# Altium footprint library Mylibr.PcbLib: 102 footprints (part 5 of 7)
Each footprint in its own frame and in the unit in brackets; x right, y up, seen from the top. Pads: shape width x height; smd on the part's side, far side on the other; paste and mask are expansions set on the pad; w line width, h text height; cw(c..) or ccw(c..) is an arc to the next point about the centre after c.
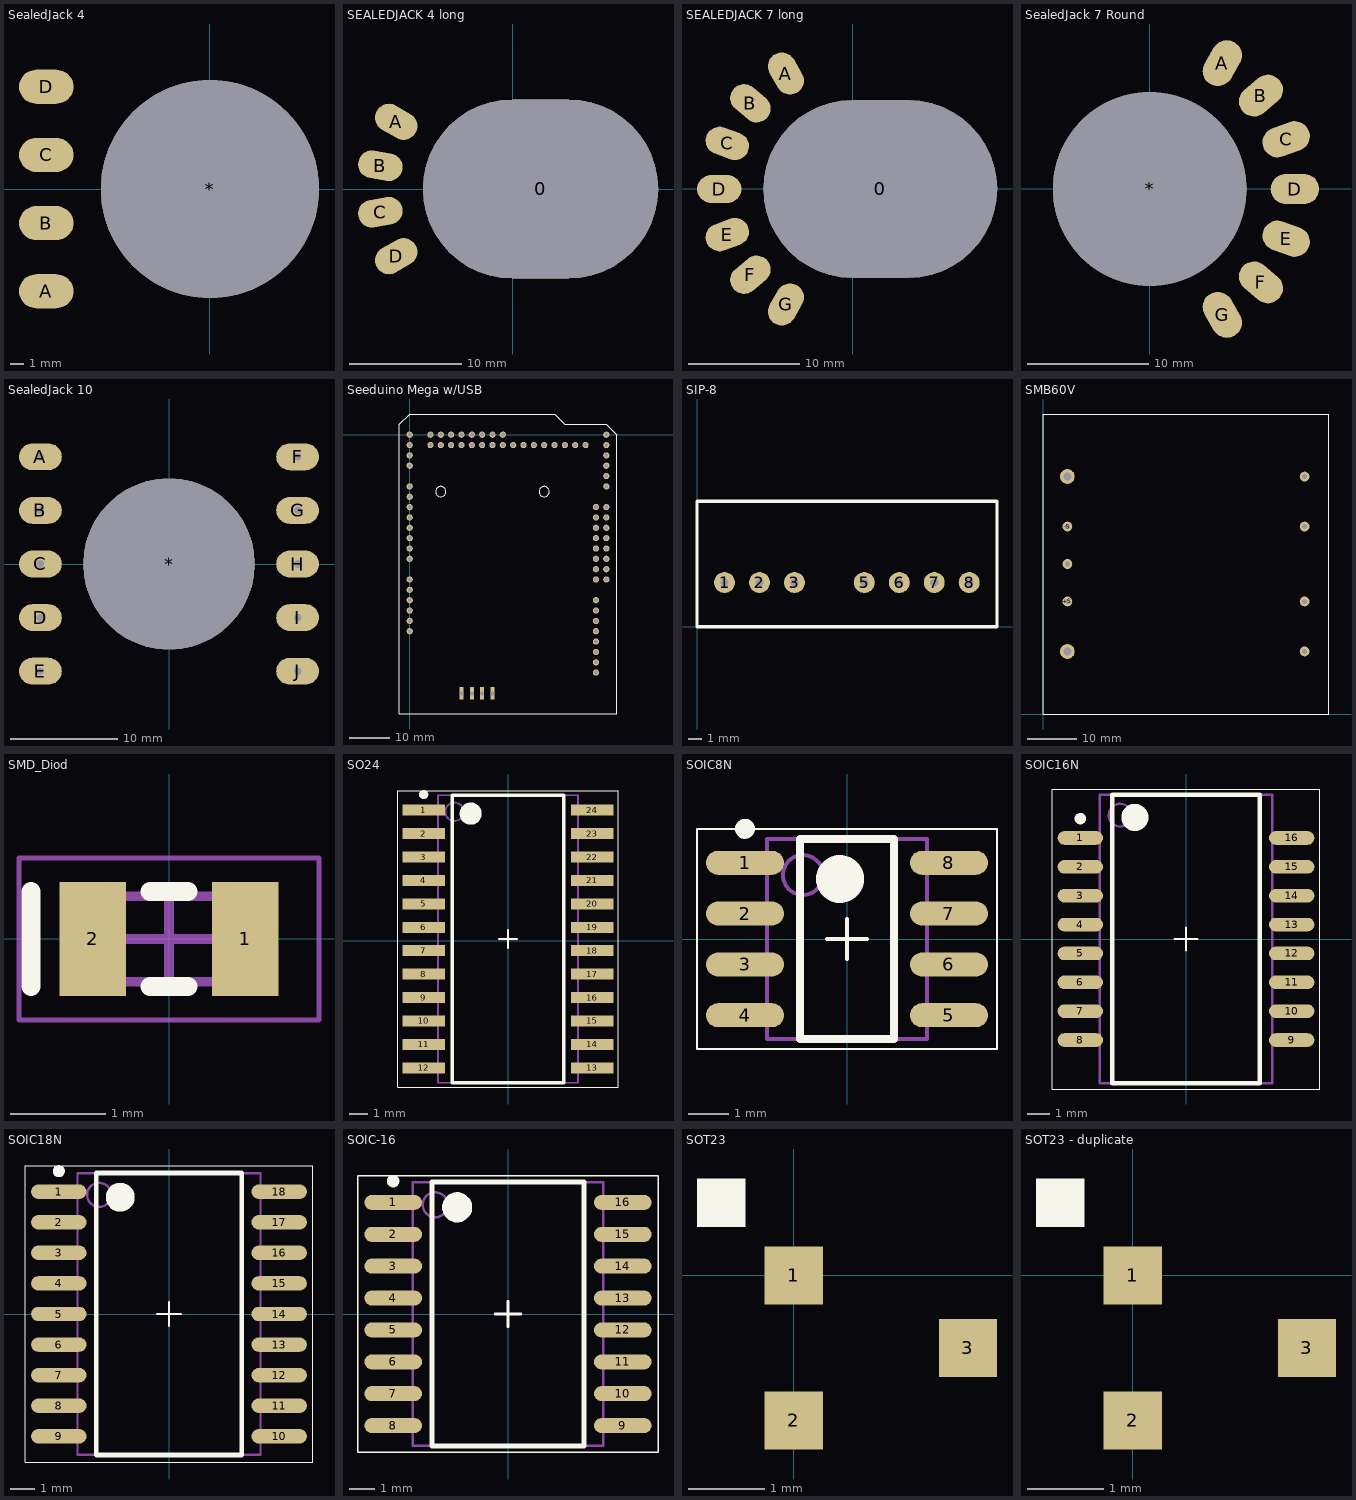
[diagram p4: the footprints below, top view; thin cyan lines are the x and y axes]

## SealedJack 4 [mm] "Гермоввод 4 пина"
pads (5):
  round 16 hole 16 unplated: *(0,0)
  oval 4x2.5 smd: A(-12,-7.5) B(-12,-2.5) C(-12,2.5) D(-12,7.5)

## SEALEDJACK 4 long [mm] "Гермоввод 4 пинов, вытянутое гнездо"
pads (5):
  oval 21x16 hole 16 slot 21 at 0 deg unplated: 0(2.5,0)
  oval 4x2.5 smd rot 150: A(-10.392,6)
  oval 4x2.5 smd rot 170: B(-11.818,2.084)
  oval 4x2.5 smd rot 10: C(-11.818,-2.084)
  oval 4x2.5 smd rot 30: D(-10.392,-6)

## SEALEDJACK 7 long [mm] "Гермоввод 7 пинов, вытянутой гнездо"
pads (8):
  oval 21x16 hole 16 slot 21 at 0 deg unplated: 0(2.5,0)
  oval 4x2.5 smd rot 120: A(-6,10.392)
  oval 4x2.5 smd rot 140: B(-9.193,7.713)
  oval 4x2.5 smd rot 160: C(-11.276,4.104)
  oval 4x2.5 smd: D(-12,0)
  oval 4x2.5 smd rot 20: E(-11.276,-4.104)
  oval 4x2.5 smd rot 40: F(-9.193,-7.713)
  oval 4x2.5 smd rot 60: G(-6,-10.392)

## SealedJack 7 Round [mm] "Гермоввод 7 пинов"
pads (8):
  round 16 hole 16 unplated: *(0,0)
  oval 4x2.5 smd rot 60: A(6,10.392)
  oval 4x2.5 smd rot 40: B(9.193,7.713)
  oval 4x2.5 smd rot 20: C(11.276,4.104)
  oval 4x2.5 smd: D(12,0)
  oval 4x2.5 smd rot 160: E(11.276,-4.104)
  oval 4x2.5 smd rot 140: F(9.193,-7.713)
  oval 4x2.5 smd rot 120: G(6,-10.392)

## SealedJack 10 [mm] "Гермоввод 10 пинов"
pads (11):
  round 16 hole 16 unplated: *(0,0)
  oval 4x2.5 smd: A(-12,10) B(-12,5) C(-12,0) D(-12,-5) E(-12,-10) F(12,10) G(12,5) H(12,0) I(12,-5) J(12,-10)
via 12,10 diameter 1.27 hole 0.711
via 12,5 diameter 1.27 hole 0.711
via 12,0 diameter 1.27 hole 0.711
via 12,-5 diameter 1.27 hole 0.711
via 12,-10 diameter 1.27 hole 0.711
via -12,-10 diameter 1.27 hole 0.711
via -12,-5 diameter 1.27 hole 0.711
via -12,0 diameter 1.27 hole 0.711
via -12,5 diameter 1.27 hole 0.711
via -12,10 diameter 1.27 hole 0.711

## Seeduino Mega w/USB [mil]
pads (76):
  round 60 hole 38: 0(200,-100) 0(200,0) 0(300,-100) 0(300,0) 0(400,-100) 0(400,0) 0(500,-100) 0(500,0) 0(600,-100) 0(600,0) 0(700,-100) 0(700,0) 0(800,-100) 0(800,0) 0(900,-100) 0(900,0) 0(1000,-100) 0(1100,-100) 0(1200,-100) 0(1300,-100) 0(1400,-100) 0(1500,-100) 0(1600,-100) 0(1700,-100) 1(0,-1900) 2(0,-1800) 3(0,-1700) 4(0,-1600) 5(0,-1500) 6(0,-1400) 7(0,-1200) 8(0,-1100) 9(0,-1000) 10(0,-900) 11(0,-800) 12(0,-700) 13(0,-600) 14(0,-500) 15(0,-300) 16(0,-200) 17(0,-100) 18(0,0) 19(1900,0) 20(1900,-100) 21(1900,-200) 22(1900,-300) 23(1900,-400) 24(1900,-500) 25(1800,-700) 25(1900,-700) 26(1800,-800) 26(1900,-800) 27(1800,-900) 27(1900,-900) 28(1800,-1000) 28(1900,-1000) 29(1800,-1100) 29(1900,-1100) 30(1800,-1200) 30(1900,-1200) 31(1800,-1300) 31(1900,-1300) 32(1800,-1400) 32(1900,-1400) 33(1800,-1600) 34(1800,-1700) 35(1800,-1800) 36(1800,-1900) 37(1800,-2000) 38(1800,-2100) 39(1800,-2200) 40(1800,-2300)
  rect 39.37x118.11 hole 39.37 unplated: 0(500,-2500) 1(600,-2500) 2(700,-2500) 3(800,-2500)
Top Overlay:
  lines w10: -100,-2700 -100,100 0,200 1400,200 1500,100 1900,100 2000,0 2000,-2700 1900,-2700 -100,-2700 ; 250,-550 ccw(c300,-550) 350,-550 ccw(c300,-550) 250,-550 ; 1250,-550 ccw(c1300,-550) 1350,-550 ccw(c1300,-550) 1250,-550

## SIP-8 [mm]
pads (7):
  round 1.524 hole 0.6: 1(2,3.2) 2(4.54,3.2) 3(7.08,3.2) 5(12.16,3.2) 6(14.7,3.2) 7(17.24,3.2) 8(19.78,3.2)
Top Overlay:
  lines w0.254: 0,0 0,9.1 21.8,9.1 21.8,0 0,0

## SMB60V [mm]
height 13
pads (9):
  round 2 hole 1: +S(4.875,22.88) +Vin(53.125,12.72) -S(4.875,38.12) -Vin(53.125,48.28) GND(53.125,38.12) ON/OFF(53.125,22.88) Trim(4.875,30.5)
  round 3 hole 1.6: +Vout(4.875,12.72) -Vout(4.875,48.28)
Top Overlay:
  lines w0.254: 0,0 58,0 58,61 0,61 0,0

## SMD_Diod [mm] "MELF Diode, 2-Leads, Body 1,70x0,85mm, IPC Medium Density"
height 0.9
pads (2):
  rect 0.7x1.2 smd: 1(0.8,0) 2(-0.8,0)
Top Overlay:
  lines w0.2: -1.45,-0.5 -1.45,0.5 ; -0.2,-0.5 0.2,-0.5 ; -0.2,0.5 0.2,0.5
Mechanical 13:
  lines w0.1: -0.9,-0.45 -0.9,0.45 0.9,0.45 0.9,-0.45 -0.9,-0.45
Mechanical 15:
  lines w0.05: -1.575,-0.85 -1.575,0.85 1.575,0.85 1.575,-0.85 -1.575,-0.85
  lines w0.1: -0.45,0 0.45,0 ; 0,-0.45 0,0.45
3D body: height 0.9, standoff 0, extent -0.9,-0.45 -0.6,0.448
3D body: height 0.88, standoff 0.04, extent 0,-0.421 0.6,0.419
3D body: height 0.88, standoff 0.05, extent -0.6,-0.42 0.6,0.418
3D body: height 0.9, standoff 0, extent 0.6,-0.45 0.9,0.448

## SO24 [mm]
height 2.5
pads (24):
  rect 2.3x0.6 smd: 1(-4.575,7.085) 2(-4.575,5.815) 3(-4.575,4.545) 4(-4.575,3.275) 5(-4.575,2.005) 6(-4.575,0.735) 7(-4.575,-0.535) 8(-4.575,-1.805) 9(-4.575,-3.075) 10(-4.575,-4.345) 11(-4.575,-5.615) 12(-4.575,-6.885) 13(4.575,-6.885) 14(4.575,-5.615) 15(4.575,-4.345) 16(4.575,-3.075) 17(4.575,-1.805) 18(4.575,-0.535) 19(4.575,0.735) 20(4.575,2.005) 21(4.575,3.275) 22(4.575,4.545) 23(4.575,5.815) 24(4.575,7.085)
Top Overlay:
  circle w0.6: c-2.025,6.9 r0.3
  circle w0.25: c-4.575,7.935 r0.125
  lines w0.05: -5.975,-7.95 5.975,-7.95 5.975,8.15 -5.975,8.15 -5.975,-7.95
  lines w0.1: -0.5,0.1 0.5,0.1 ; 0,-0.4 0,0.6
  lines w0.2: -3.025,-7.7 3.025,-7.7 3.025,7.9 -3.025,7.9 -3.025,-7.7
Mechanical 13:
  circle w0.1: c-2.9,7 r0.5
  lines w0.1: -3.8,-7.7 3.8,-7.7 3.8,7.9 -3.8,7.9 -3.8,-7.7
3D body: height 2.5, standoff 0.2, extent -3.8,-7.7 3.8,7.9

## SOIC8N [mm] "SOIC, 8-Leads, Body 4,90x3,90mm, Pitch 1,27mm, IPC Medium Density"
height 1.75
pads (8):
  oval 1.95x0.6 smd: 1(-2.55,1.905) 2(-2.55,0.635) 3(-2.55,-0.635) 4(-2.55,-1.905) 5(2.55,-1.905) 6(2.55,-0.635) 7(2.55,0.635) 8(2.55,1.905)
Top Overlay:
  circle w0.25: c-2.55,2.755 r0.125
  circle w0.6: c-0.175,1.5 r0.3
  lines w0.05: -3.75,-2.75 -3.75,2.75 3.75,2.75 3.75,-2.75 -3.75,-2.75
  lines w0.1: -0.5,0 0.5,0 ; 0,-0.5 0,0.5
  lines w0.2: -1.175,-2.5 -1.175,2.5 1.175,2.5 1.175,-2.5 -1.175,-2.5
Mechanical 13:
  circle w0.1: c-1.1,1.6 r0.5
  lines w0.1: -2,-2.5 -2,2.5 2,2.5 2,-2.5 -2,-2.5
3D body: height 1.75, standoff 0.2, extent -2,-2.5 2,2.5

## SOIC16N [mm] "SOIC, 16-Leads, Body 12,75x7,50mm, Pitch 1,27mm, IPC Medium Density"
height 2.65
pads (16):
  oval 2x0.6 smd: 1(-4.65,4.445) 2(-4.65,3.175) 3(-4.65,1.905) 4(-4.65,0.635) 5(-4.65,-0.635) 6(-4.65,-1.905) 7(-4.65,-3.175) 8(-4.65,-4.445) 9(4.65,-4.445) 10(4.65,-3.175) 11(4.65,-1.905) 12(4.65,-0.635) 13(4.65,0.635) 14(4.65,1.905) 15(4.65,3.175) 16(4.65,4.445)
Top Overlay:
  circle w0.25: c-4.65,5.295 r0.125
  circle w0.6: c-2.25,5.35 r0.3
  lines w0.05: -5.875,-6.6 -5.875,6.6 5.875,6.6 5.875,-6.6 -5.875,-6.6
  lines w0.1: -0.5,0 0.5,0 ; 0,-0.5 0,0.5
  lines w0.2: -3.25,-6.35 -3.25,6.35 3.25,6.35 3.25,-6.35 -3.25,-6.35
Mechanical 13:
  circle w0.1: c-2.9,5.45 r0.5
  lines w0.1: -3.8,-6.35 -3.8,6.35 3.8,6.35 3.8,-6.35 -3.8,-6.35
3D body: height 2.65, standoff 0.3, extent -3.8,-6.35 3.8,6.35

## SOIC18N [mm] "SOIC, 18-Leads, Body 11,53x7,50mm, Pitch 1,27mm, IPC Medium Density"
height 2.5
pads (18):
  oval 2.3x0.6 smd: 1(-4.575,5.08) 2(-4.575,3.81) 3(-4.575,2.54) 4(-4.575,1.27) 5(-4.575,0) 6(-4.575,-1.27) 7(-4.575,-2.54) 8(-4.575,-3.81) 9(-4.575,-5.08) 10(4.575,-5.08) 11(4.575,-3.81) 12(4.575,-2.54) 13(4.575,-1.27) 14(4.575,0) 15(4.575,1.27) 16(4.575,2.54) 17(4.575,3.81) 18(4.575,5.08)
Top Overlay:
  circle w0.25: c-4.575,5.93 r0.125
  circle w0.6: c-2.025,4.85 r0.3
  lines w0.05: -5.975,-6.15 -5.975,6.15 5.975,6.15 5.975,-6.15 -5.975,-6.15
  lines w0.1: -0.5,0 0.5,0 ; 0,-0.5 0,0.5
  lines w0.2: -3.025,-5.85 -3.025,5.85 3.025,5.85 3.025,-5.85 -3.025,-5.85
Mechanical 13:
  circle w0.1: c-2.9,4.95 r0.5
  lines w0.1: -3.8,-5.85 -3.8,5.85 3.8,5.85 3.8,-5.85 -3.8,-5.85
3D body: height 2.5, standoff 0.2, extent -3.8,-5.85 3.8,5.85

## SOIC-16 [mm] "SOIC, 16-Leads, Body 10,30x7,50mm, Pitch 1,27mm, IPC Medium Density"
height 2.65
pads (16):
  oval 2.3x0.6 smd: 1(-4.575,4.445) 2(-4.575,3.175) 3(-4.575,1.905) 4(-4.575,0.635) 5(-4.575,-0.635) 6(-4.575,-1.905) 7(-4.575,-3.175) 8(-4.575,-4.445) 9(4.575,-4.445) 10(4.575,-3.175) 11(4.575,-1.905) 12(4.575,-0.635) 13(4.575,0.635) 14(4.575,1.905) 15(4.575,3.175) 16(4.575,4.445)
Top Overlay:
  circle w0.6: c-2.025,4.25 r0.3
  circle w0.25: c-4.575,5.295 r0.125
  lines w0.05: -5.975,-5.5 5.975,-5.5 5.975,5.5 -5.975,5.5 -5.975,-5.5
  lines w0.1: -0.5,0 0.5,0 ; 0,-0.5 0,0.5
  lines w0.2: -3.025,-5.25 3.025,-5.25 3.025,5.25 -3.025,5.25 -3.025,-5.25
Mechanical 13:
  circle w0.1: c-2.9,4.35 r0.5
  lines w0.1: -3.8,-5.25 3.8,-5.25 3.8,5.25 -3.8,5.25 -3.8,-5.25
3D body: height 2.65, standoff 0.2, extent -3.8,-5.25 3.8,5.25

## SOT23 [mil]
height 118.11
pads (3):
  rect 30x30 smd: 1(0,0) 2(0,-75) 3(90,-37.5)
Top Overlay:
  region: -50,25 -25,25 -25,50 -50,50
3D body: height 41.34, standoff -1.97, extent -4,-97 94.42,21.11

## SOT23 - duplicate [mil]
height 118.11
pads (3):
  rect 30x30 smd: 1(0,0) 2(0,-75) 3(90,-37.5)
Top Overlay:
  region: -50,25 -25,25 -25,50 -50,50
3D body: height 41.34, standoff -1.97, extent -4,-97 94.42,21.11